# Altium schematic symbol library DF51K-18DP-2DS(800).Schlib: 1 symbol
Pins are listed as number, name and electrical type; pins without a type are passive.

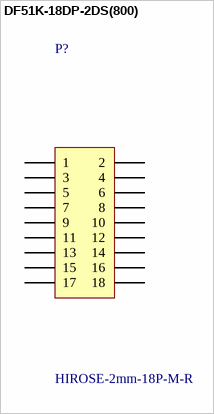
[diagram p0: symbol DF51K-18DP-2DS(800)]

## DF51K-18DP-2DS(800)
designator P?, comment HIROSE-2mm-18P-M-R
Hirose 18 Pin, Right Angle Pin Header
pins: 1, 2, 3, 4, 5, 6, 7, 8, 9, 10, 11, 12, 13, 14, 15, 16, 17, 18